# Altium integrated library AltiumV15.IntLib: 1 symbol
Pins are listed as number, name and electrical type; pins without a type are passive.

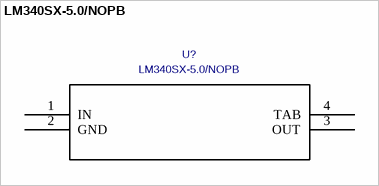
[diagram p0: symbol LM340SX-5.0/NOPB]

## LM340SX-5.0/NOPB
designator U?
C: Copyright (C) 2015 Accelerated Designs. All rights reserved; Vendor: Texas Instruments; Built_By: EMA_UL_Team; SourceLibrary: National_2014-06-20; Value: LM340SX-5.0/NOPB; Manufacturer_Part_Number: LM340SX-5.0/NOPB
footprint TS3B_TEX
pins: 1 IN (power), 2 GND (power), 3 OUT (power), 4 TAB (power)